# Altium footprint library General_Controller.PcbLib: 2 footprints
Each footprint in its own frame and in the unit in brackets; x right, y up, seen from the top. Pads: shape width x height; smd on the part's side, far side on the other; paste and mask are expansions set on the pad; w line width, h text height; cw(c..) or ccw(c..) is an arc to the next point about the centre after c.
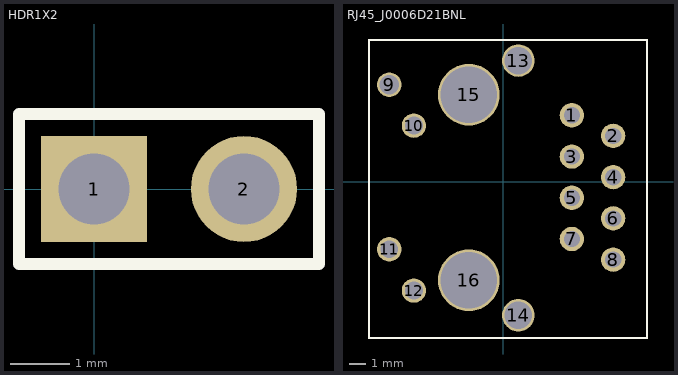
[diagram p0: the footprints below, top view; thin cyan lines are the x and y axes]

## HDR1X2 [mm] "Connector; Header; 2 Position"
pads (2):
  rect 1.8x1.8 hole 1.2: 1(0,0)
  round 1.8 hole 1.2: 2(2.54,0)
Top Overlay:
  lines w0.2: -1.27,-1.27 -1.27,1.27 3.81,1.27 3.81,-1.27 -1.27,-1.27

## RJ45_J0006D21BNL [mm]
pads (16):
  round 1.5 hole 1: 1(4.216,4.102) 2(6.756,2.832) 3(4.216,1.562) 4(6.756,0.292) 5(4.216,-0.978) 6(6.756,-2.248) 7(4.216,-3.518) 8(6.756,-4.788)
  round 1.5 hole 1.2: 9(-7.034,5.986)
  round 1.5 hole 1.1: 10(-5.515,3.467) 11(-7.034,-4.153) 12(-5.515,-6.693)
  round 2 hole 1.7: 13(0.915,7.468) 14(0.915,-8.214)
  round 3.8 hole 3.5: 15(-2.134,5.372) 16(-2.134,-6.058)
Top Overlay:
  rectangle: 8.788,-9.677 8.915,8.738
  rectangle: -8.357,8.674 8.915,8.801
  rectangle: -8.293,-9.677 8.915,-9.55
  rectangle: -8.357,-9.677 -8.23,8.738